# Altium schematic symbol library MOSFET.SchLib: 3 symbols
Pins are listed as number, name and electrical type; pins without a type are passive.

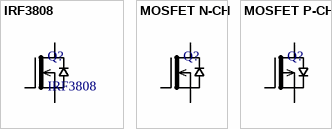
[diagram p0: symbols IRF3808 to MOSFET P-CH]

## IRF3808
designator Q?
IRF3808 N-channel 75V 140A
simulation model IRF3808 (Model Description)
footprint TO-220(TO-220-3) - HORIZ, TAB TO PIN 2
footprint TO-220(TO-220-3)
pins: 1 G, 2 D, 3 S

## MOSFET N-CH
designator Q?  (value not drawn)
DS Voltage: 30V; G thrsh Voltage: 1; DS Current: 2.2A
footprint LC-SOT-23(SOT-23-3)
pins: 1 G, 2 S, 3 D

## MOSFET P-CH
designator Q?  (value not drawn)
DS Voltage: 30V; G thrsh Voltage: 1; DS Current: 2.2A
footprint LC-SOT-23(SOT-23-3)
pins: 1 G, 2 S, 3 D